# Altium footprint library LPEDT_proj_lib.PcbLib: 47 footprints (part 3 of 3)
Each footprint in its own frame and in the unit in brackets; x right, y up, seen from the top. Pads: shape width x height; smd on the part's side, far side on the other; paste and mask are expansions set on the pad; w line width, h text height; cw(c..) or ccw(c..) is an arc to the next point about the centre after c.
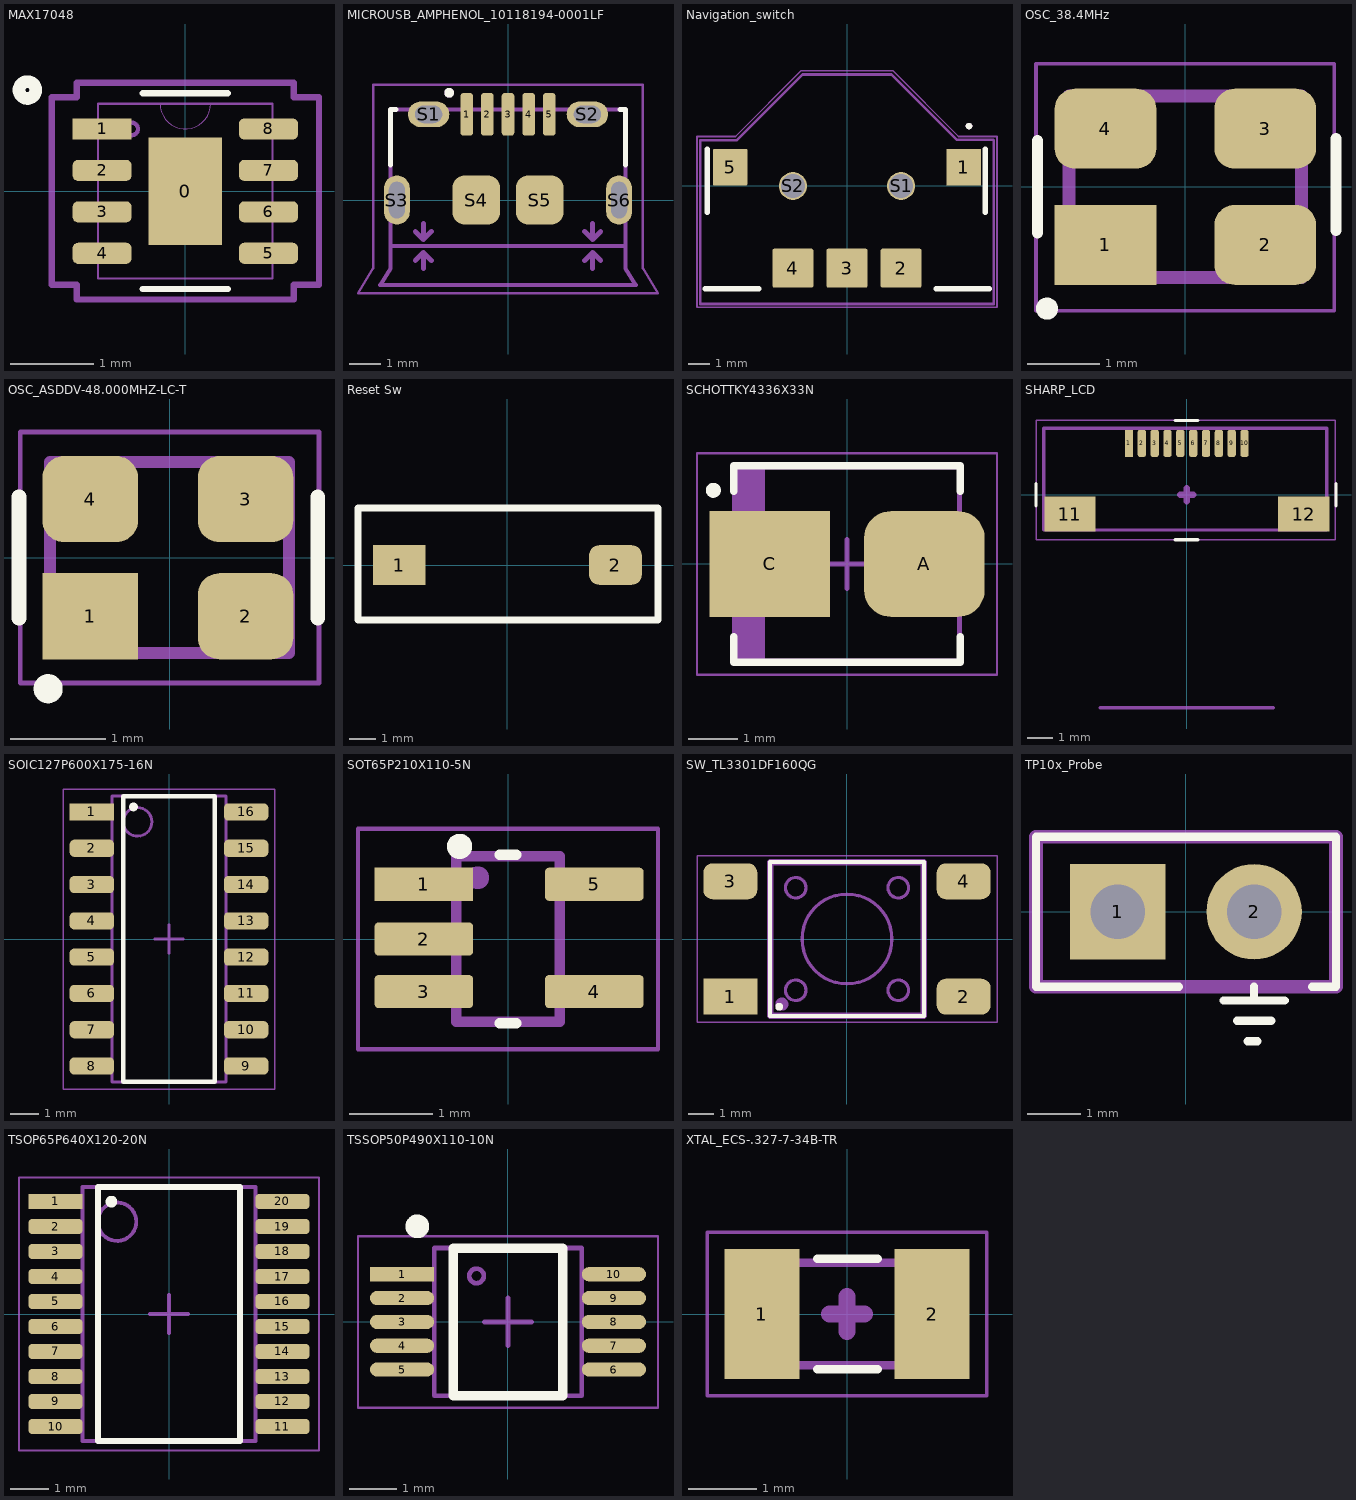
[diagram p2: the footprints below, top view; thin cyan lines are the x and y axes]

## MAX17048 [mil] "Batteery Monitor"
pads (9):
  rect 35x51 smd mask+2: 0(0,0)
  rect 28x10 smd mask+2: 1(-39.5,29.53)
  rrect50% 28x10 smd mask+2: 2(-39.5,9.84) 3(-39.5,-9.84) 4(-39.5,-29.53) 5(39.5,-29.53) 6(39.5,-9.84) 7(39.5,9.84) 8(39.5,29.53)
Top Overlay:
  circle w6: c-75,48 r4
  lines w3: -20.18,-46.5 20.18,-46.5 ; -20.18,46.5 20.18,46.5
Mech 13 Assly info:
  circle w2: c-25.5,29.53 r3
  lines w0: -12,41.5 ccw(c0,41.5) 12,41.5
  lines w1: -41.5,-41.5 -41.5,41.5 41.5,41.5 41.5,-41.5 -41.5,-41.5
  text ".Designator" at -31.57,-34.3 h25
Mech 15 Ctyd:
  lines w3: -63.5,-44.53 -51.5,-44.53 -51.5,-51.5 51.5,-51.5 51.5,-44.53 63.5,-44.53 63.5,44.53 51.5,44.53 51.5,51.5 -51.5,51.5 -51.5,44.53 -63.5,44.53 -63.5,-44.53
3D body "21-0168E_T822-3_MXM.step": height 32.09, standoff 0, extent -41.5,-41.5 41.5,41.5

## MICROUSB_AMPHENOL_10118194-0001LF [mm]
pads (11):
  rrect50% 0.4x1.35 smd: 1(-1.3,2.7) 2(-0.65,2.7) 3(0,2.7) 4(0.65,2.7) 5(1.3,2.7)
  oval 1.3x0.813 hole 0.55 slot 0.85 at 0 deg: S1(-2.5,2.7) S2(2.5,2.7)
  oval 0.813x1.55 hole 0.5 slot 1.15 at 90 deg: S3(-3.5,0) S6(3.5,0)
  rrect50% 1.5x1.55 smd: S4(-1,0) S5(1,0)
Top Overlay:
  circle w0.152: c-1.854,3.378 r0.076
  lines w0.152: -3.7,1.095 -3.7,2.85 -3.52,2.85 ; 3.52,2.85 3.7,2.85 3.7,1.095
Top Paste:
  lines w0: -3.5,0.6 -3.5,0.77 ; 3.5,-0.77 3.5,-0.6
Mech 13 Assly info:
  circle w0.152: c-1.854,3.378 r0.076
  lines w0.127: -3.7,-1.45 -3.7,2.85 3.7,2.85 3.7,-1.45 ; -3.7,-1.45 -3.7,-2.15 -4.025,-2.68 4.025,-2.68 3.7,-2.15 3.7,-1.45 ; -3.7,-1.45 3.7,-1.45
  lines w0.152: -2.921,-1.905 -2.667,-1.651 ; -2.921,-0.991 -2.667,-1.245 ; -2.667,-2.159 -2.667,-1.651 ; -2.667,-0.737 -2.667,-1.245 ; -2.413,-1.905 -2.667,-1.651 ; -2.413,-0.991 -2.667,-1.245 ; 2.413,-1.905 2.667,-1.651 ; 2.413,-0.991 2.667,-1.245 ; 2.667,-2.159 2.667,-1.651 ; 2.667,-0.737 2.667,-1.245 ; 2.921,-1.905 2.667,-1.651 ; 2.921,-0.991 2.667,-1.245
  text ".Designator" at -3.429,1.143 h0.69
  text "PCB END" at -1.651,-2.159 h0.5
Mech 15 Ctyd:
  lines w0.076: -4.725,-2.93 -4.25,-2.15 -4.25,3.625 4.25,3.625 4.25,-2.15 4.725,-2.93 -4.725,-2.93
3D body "10118194c.stp": height 2.75, standoff -0.53, extent -4.05,-2.692 4,2.888

## Navigation_switch [mm] "SURFACE MOUNT NAVIGATION SWITCH"
pads (7):
  rect 1.6x1.7 smd paste+0 mask+0.051: 1(5.4,0.87)
  rrect10% 1.9x1.8 smd: 2(2.5,-3.8) 3(0,-3.8) 4(-2.5,-3.8)
  rrect10% 1.6x1.7 smd: 5(-5.4,0.87)
  round 1.3 hole 1.1: S1(2.5,0) S2(-2.5,0)
Top Overlay:
  circle w0.152: c5.639,2.769 r0.076
  lines w0.254: -6.544,-4.75 -4.089,-4.75 ; -6.452,-1.219 -6.452,1.702 ; 4.124,-4.75 6.579,-4.75 ; 6.4,-1.219 6.4,1.702
Mech 13 Assly info:
  circle w0.152: c5.639,2.769 r0.076
  lines w0.127: -6.782,-5.461 -6.782,1.295 -6.782,2.108 -5.105,2.108 -2.057,5.156 2.057,5.156 5.08,2.134 6.756,2.134 6.782,2.108 6.782,-5.461 -6.782,-5.461
  text ".Designator" at -3.581,-2.057 h0.69
Mech 15 Ctyd:
  lines w0.076: -6.934,-5.613 6.934,-5.613 ; -6.934,-5.613 -6.934,1.727 ; -6.934,-5.613 6.934,-5.613 ; -6.934,-5.613 -6.934,1.727 ; -6.934,1.727 -6.934,2.286 ; -6.934,1.727 -6.934,2.286 ; -6.934,2.286 -5.156,2.286 ; -6.934,2.286 -5.156,2.286 ; -5.156,2.286 -2.108,5.334 ; -5.156,2.286 -2.108,5.334 ; -2.108,5.334 2.108,5.334 ; -2.108,5.334 2.108,5.334 ; 2.108,5.334 5.156,2.286 ; 2.108,5.334 5.156,2.286 ; 5.156,2.286 6.934,2.286 ; 5.156,2.286 6.934,2.286 ; 6.934,-5.613 6.934,2.286 ; 6.934,-5.613 6.934,2.286
3D body "NAV_SWITCH.STEP": height 2.3, standoff -0.1, extent -6.93,-4.547 7.032,7.374

## OSC_38.4MHz [mm]
height 0.8
pads (4):
  rect 1.4x1.1 smd: 1(-1.1,-0.8)
  rrect50% 1.4x1.1 smd: 2(1.1,-0.8) 3(1.1,0.8) 4(-1.1,0.8)
Top Overlay:
  circle w0.152: c-1.905,-1.676 r0.076
  lines w0.152: -2.038,-0.635 -2.038,0.635 ; 2.073,-0.604 2.073,0.666
Mech 13 Assly info:
  circle w0.2: c-1.265,-0.865 r0.1
  lines w0.18: -1.6,-1.25 1.6,-1.25 1.6,1.25 -1.6,1.25 -1.6,-1.25
  text ".Designator" at -1.324,-0.483 h1
Mech 15 Ctyd:
  lines w0.05: -2.056,-1.708 2.048,-1.708 2.048,1.692 -2.056,1.692 -2.056,-1.708

## OSC_ASDDV-48.000MHZ-LC-T [mm]
pads (4):
  rect 1x0.9 smd: 1(-0.83,-0.614)
  rrect50% 1x0.9 smd: 2(0.795,-0.614) 3(0.795,0.611) 4(-0.83,0.611)
Top Overlay:
  circle w0.152: c-1.27,-1.372 r0.076
  lines w0.152: -1.575,-0.635 -1.575,0.635 ; 1.549,-0.635 1.549,0.635
Mech 13 Assly info:
  circle w0.2: c-0.889,0.635 r0.1
  lines w0.127: -1.25,-1 1.25,-1 1.25,1 -1.25,1 -1.25,-1
  text ".Designator" at -1.072,-0.568 h0.76
Mech 15 Ctyd:
  lines w0.05: -1.562,-1.312 1.562,-1.312 1.562,1.312 -1.562,1.312 -1.562,-1.312
3D body "ASDK.STEP": height 0.95, standoff 0, extent -1.25,-1 1.25,1

## Reset Sw [mm]
pads (2):
  rect 2x1.5 smd: 1(-4.1,0)
  rrect50% 2x1.5 smd: 2(4.1,0)
Top Overlay:
  lines w0.254: -5.664,-2.083 5.715,-2.083 5.715,2.159 -5.664,2.159 -5.664,-0.726 -5.664,-2.083
Mech 15 Ctyd:
  lines w0.152: -5.664,-2.083 5.715,-2.083 5.715,2.159 -5.664,2.159 -5.664,0.726 -5.664,-2.083
3D body "PTS636SL43SMTRLFS.stp": height 4.3, standoff -0.03, extent -4.3,-1.75 4.3,1.75

## SCHOTTKY4336X33N [mm] "Schottky Diode, 2-Leads, Body 4.31x3.62mm, IPC Medium Density"
height 3.3
pads (2):
  rrect50% 2.45x2.15 smd: A(1.575,0)
  rect 2.45x2.15 smd: C(-1.575,0)
Top Overlay:
  circle w0.152: c-2.718,1.499 r0.076
  lines w0.152: -2.3,-1.475 -2.3,-2 2.3,-2 2.3,-1.475 ; -2.3,1.475 -2.3,2 2.3,2 2.3,1.475
Mech 13 Assly info:
  rectangle: -2.285,-1.97 -1.67,1.97
  lines w0.1: -2.285,-1.97 -2.285,1.97 2.285,1.97 2.285,-1.97 -2.285,-1.97
  text ".Designator" at -1.422,-1.66 h1.27
Mech 15 Ctyd:
  lines w0.05: -3.05,-2.25 -3.05,2.25 3.05,2.25 3.05,-2.25 -3.05,-2.25
  lines w0.1: -0.5,0 0.5,0 ; 0,-0.5 0,0.5
3D body: height 3.3, standoff 0, extent -2.285,-1.97 2.285,1.97

## SHARP_LCD [mm]
pads (12):
  rect 0.32x1.05 smd mask+0.05: 1(-2.246,2)
  rrect50% 0.32x1.05 smd mask+0.052: 2(-1.746,2) 3(-1.246,2) 4(-0.746,2) 5(-0.246,2) 6(0.254,2) 7(0.754,2) 8(1.254,2) 9(1.754,2) 10(2.254,2)
  rect 2x1.35 smd: 11(-4.546,-0.75) 12(4.554,-0.75)
Top Overlay:
  lines w0.127: -5.867,-0.44 -5.867,0.44 ; -0.44,-1.753 0.44,-1.753 ; -0.44,2.896 0.44,2.896 ; 5.817,-0.44 5.817,0.44
Mech 13 Assly info:
  lines w0.127: -3.378,-8.295 3.378,-8.295 ; -5.563,-1.372 -5.563,2.591 5.461,2.591 5.461,-1.372 -5.563,-1.372
  text "PCB END" at -2.134,-8.103 h0.64
  text ".Designator" at -5.182,0.144 h1.27
Mech 15 Ctyd:
  lines w0.05: -5.86,-1.753 -5.86,2.902 5.791,2.902 5.791,-1.753 -5.86,-1.753
  lines w0.254: -0.254,0 0.254,0 ; 0,-0.254 0,0.254
3D body: height -1.58, standoff -3.22, extent -31.471,-4.293 31.471,36.297

## SOIC127P600X175-16N [mm] "SOIC, 16-Leads, Body 9.90x3.90mm, Pitch 1.27mm, IPC Medium Density"
height 1.75
pads (16):
  rect 1.55x0.6 smd: 1(-2.7,4.445)
  rrect50% 1.55x0.6 smd: 2(-2.7,3.175) 3(-2.7,1.905) 4(-2.7,0.635) 5(-2.7,-0.635) 6(-2.7,-1.905) 7(-2.7,-3.175) 8(-2.7,-4.445) 9(2.7,-4.445) 10(2.7,-3.175) 11(2.7,-1.905) 12(2.7,-0.635) 13(2.7,0.635) 14(2.7,1.905) 15(2.7,3.175) 16(2.7,4.445)
Top Overlay:
  circle w0.152: c-1.245,4.623 r0.076
  lines w0.152: -1.6,-5 -1.6,5 1.6,5 1.6,-5 -1.6,-5
Mech 13 Assly info:
  circle w0.1: c-1.1,4.1 r0.5
  lines w0.1: -2,-5 -2,5 2,5 2,-5 -2,-5
  text ".Designator" at -1.245,-4.369 h0.91
Mech 15 Ctyd:
  lines w0.05: -3.7,-5.25 -3.7,5.25 3.7,5.25 3.7,-5.25 -3.7,-5.25
  lines w0.1: -0.5,0 0.5,0 ; 0,-0.5 0,0.5
3D body "SOIC127P600X175-16N.step": height 1.75, standoff 0, extent -3,-5 3,5

## SOT65P210X110-5N [mm]
pads (5):
  rect 1.19x0.4 smd mask+0.051: 1(-1.016,0.66)
  rrect25% 1.19x0.4 smd mask+0.051: 2(-1.016,0) 3(-1.016,-0.635) 4(1.041,-0.635) 5(1.041,0.66)
Top Overlay:
  circle w0.152: c-0.584,1.118 r0.076
  lines w0.127: -0.102,1.016 0.098,1.016 ; -0.098,-1.016 0.102,-1.016
Mech 13 Assly info:
  circle w0.254: c-0.365,0.739 r0.009
  lines w0.127: -0.625,-1 -0.625,1 0.625,1 0.625,-1 -0.625,-1
  text ".Designator" at -0.356,-0.779 h0.64
Mech 15 Ctyd:
  lines w0.05: -1.81,-1.33 -1.81,1.33 1.81,1.33 1.81,-1.33 -1.81,-1.33
3D body "TPS22942DCKR.STEP": height 1.1, standoff 0, extent -1.05,-1 1.05,1

## SW_TL3301DF160QG [mm]
pads (4):
  rect 2.1x1.4 smd: 1(-4.55,-2.25)
  rrect50% 2.1x1.4 smd: 2(4.55,-2.25) 3(-4.55,2.25) 4(4.55,2.25)
Top Overlay:
  circle w0.152: c-2.642,-2.642 r0.076
  lines w0.152: -3,-3 -3,3 3,3 3,-3 -3,-3
Mech 13 Assly info:
  circle w0.127: c0,0 r1.75
  circle w0.127: c-2,2 r0.4
  circle w0.127: c2,2 r0.4
  circle w0.127: c-2,-2 r0.4
  circle w0.127: c2,-2 r0.4
  circle w0.254: c-2.54,-2.54 r0.127
  lines w0.127: -3,-3 -3,3 3,3 3,-3 -3,-3
  lines w0.254: -3,-3 3,-3 3,3 -3,3 -3,-3
  text ".Designator" at -2.667,-1.482 h1.27
Mech 15 Ctyd:
  lines w0.05: -5.85,-3.25 5.85,-3.25 5.85,3.25 -5.85,3.25 -5.85,-3.25
3D body "TL3301DFxxxxG.stp": height 13.08, standoff -0.02, extent -5,-3 5,3

## TP10x_Probe [mil] "Small Probs footprint"
pads (2):
  rect 70x70 hole 40: 1(-50,0)
  round 70 hole 40: 2(50,0)
Top Overlay:
  lines w6: -5,-55 -110,-55 -110,55 110.04,55 110.04,-55 92.42,-55 ; 27.5,-65 72.5,-65 ; 37.5,-80 62.5,-80 ; 45.23,-95 52.5,-95 ; 50,-65 50,-54.73
Mech 13 Assly info:
  lines w10: -110,-55 110,-55 110,55 -110,55 -110,-55
  text ".Designator" at -90,-33.34 h50

## TSOP65P640X120-20N [mm] "TSOP, 20-Leads, Body 6.50x4.40mm, Pitch 0.65mm, IPC Medium Density"
height 1.2
pads (20):
  rect 1.4x0.4 smd: 1(-2.95,2.925)
  rrect50% 1.4x0.4 smd: 2(-2.95,2.275) 3(-2.95,1.625) 4(-2.95,0.975) 5(-2.95,0.325) 6(-2.95,-0.325) 7(-2.95,-0.975) 8(-2.95,-1.625) 9(-2.95,-2.275) 10(-2.95,-2.925) 11(2.95,-2.925) 12(2.95,-2.275) 13(2.95,-1.625) 14(2.95,-0.975) 15(2.95,-0.325) 16(2.95,0.325) 17(2.95,0.975) 18(2.95,1.625) 19(2.95,2.275) 20(2.95,2.925)
Top Overlay:
  circle w0.152: c-1.499,2.921 r0.076
  lines w0.152: -1.85,-3.3 1.85,-3.3 1.85,3.3 -1.85,3.3 -1.85,-3.3
Mech 13 Assly info:
  circle w0.1: c-1.35,2.4 r0.5
  lines w0.1: -2.25,-3.3 2.25,-3.3 2.25,3.3 -2.25,3.3 -2.25,-3.3
  text ".Designator" at -1.524,-2.173 h1.1
Mech 15 Ctyd:
  lines w0.05: -3.9,-3.55 3.9,-3.55 3.9,3.55 -3.9,3.55 -3.9,-3.55
  lines w0.1: -0.5,0 0.5,0 ; 0,-0.5 0,0.5
3D body "TSOP65P640X120-20N.step": height 1.2, standoff 0, extent -3.2,-3.3 3.2,3.3

## TSSOP50P490X110-10N [mm] "TSS3A24159_Analog_Switch TSSOP, 10-Leads, Body 3.00x3.00mm, Pitch 0.50mm, IPC Medium Density"
height 1.1
pads (10):
  rect 1.35x0.3 smd mask+0.076: 1(-2.225,1)
  oval 1.35x0.3 smd mask+0.076: 2(-2.225,0.5) 3(-2.225,0) 4(-2.225,-0.5) 5(-2.225,-1) 6(2.225,-1) 7(2.225,-0.5) 8(2.225,0) 9(2.225,0.5) 10(2.225,1)
Top Overlay:
  circle w0.25: c-1.905,2.007 r0.125
  lines w0.2: -1.15,-1.55 -1.15,1.55 1.15,1.55 1.15,-1.55 -1.15,-1.55
Mech 13 Assly info:
  circle w0.1: c-0.66,0.965 r0.152
  lines w0.1: -1.55,-1.55 -1.55,1.55 1.55,1.55 1.55,-1.55 -1.55,-1.55
  text ".Designator" at -1.372,-1.334 h0.8
Mech 15 Ctyd:
  lines w0.05: -3.15,-1.8 -3.15,1.8 3.15,1.8 3.15,-1.8 -3.15,-1.8
  lines w0.1: -0.5,0 0.5,0 ; 0,-0.5 0,0.5
3D body "TSSOP50P490X110-10N.step": height 1.1, standoff 0, extent -2.45,-1.55 2.45,1.55

## XTAL_ECS-.327-7-34B-TR [mm]
pads (2):
  rect 1.1x1.9 smd: 1(-1.25,0) 2(1.25,0)
Top Overlay:
  lines w0.127: -0.432,-0.813 0.448,-0.813 ; -0.432,0.813 0.448,0.813
Mech 13 Assly info:
  lines w0.127: -1.6,-0.75 1.6,-0.75 1.6,0.75 -1.6,0.75 -1.6,-0.75
  text ".Designator" at -1.245,-0.483 h0.76
Mech 15 Ctyd:
  lines w0.05: -2.05,-1.2 -2.05,1.2 2.05,1.2 2.05,-1.2 -2.05,-1.2
  lines w0.254: -0.254,0 0.254,0 ; 0,-0.254 0,0.254
3D body "ECS-.327-7-34B-TR.STEP": height 0.9, standoff 0, extent -1.6,-0.75 1.6,0.75